# Altium footprint library relay.PCBLIB: 291 footprints (part 18 of 19)
Each footprint in its own frame and in the unit in brackets; x right, y up, seen from the top. Pads: shape width x height; smd on the part's side, far side on the other; paste and mask are expansions set on the pad; w line width, h text height; cw(c..) or ccw(c..) is an arc to the next point about the centre after c.
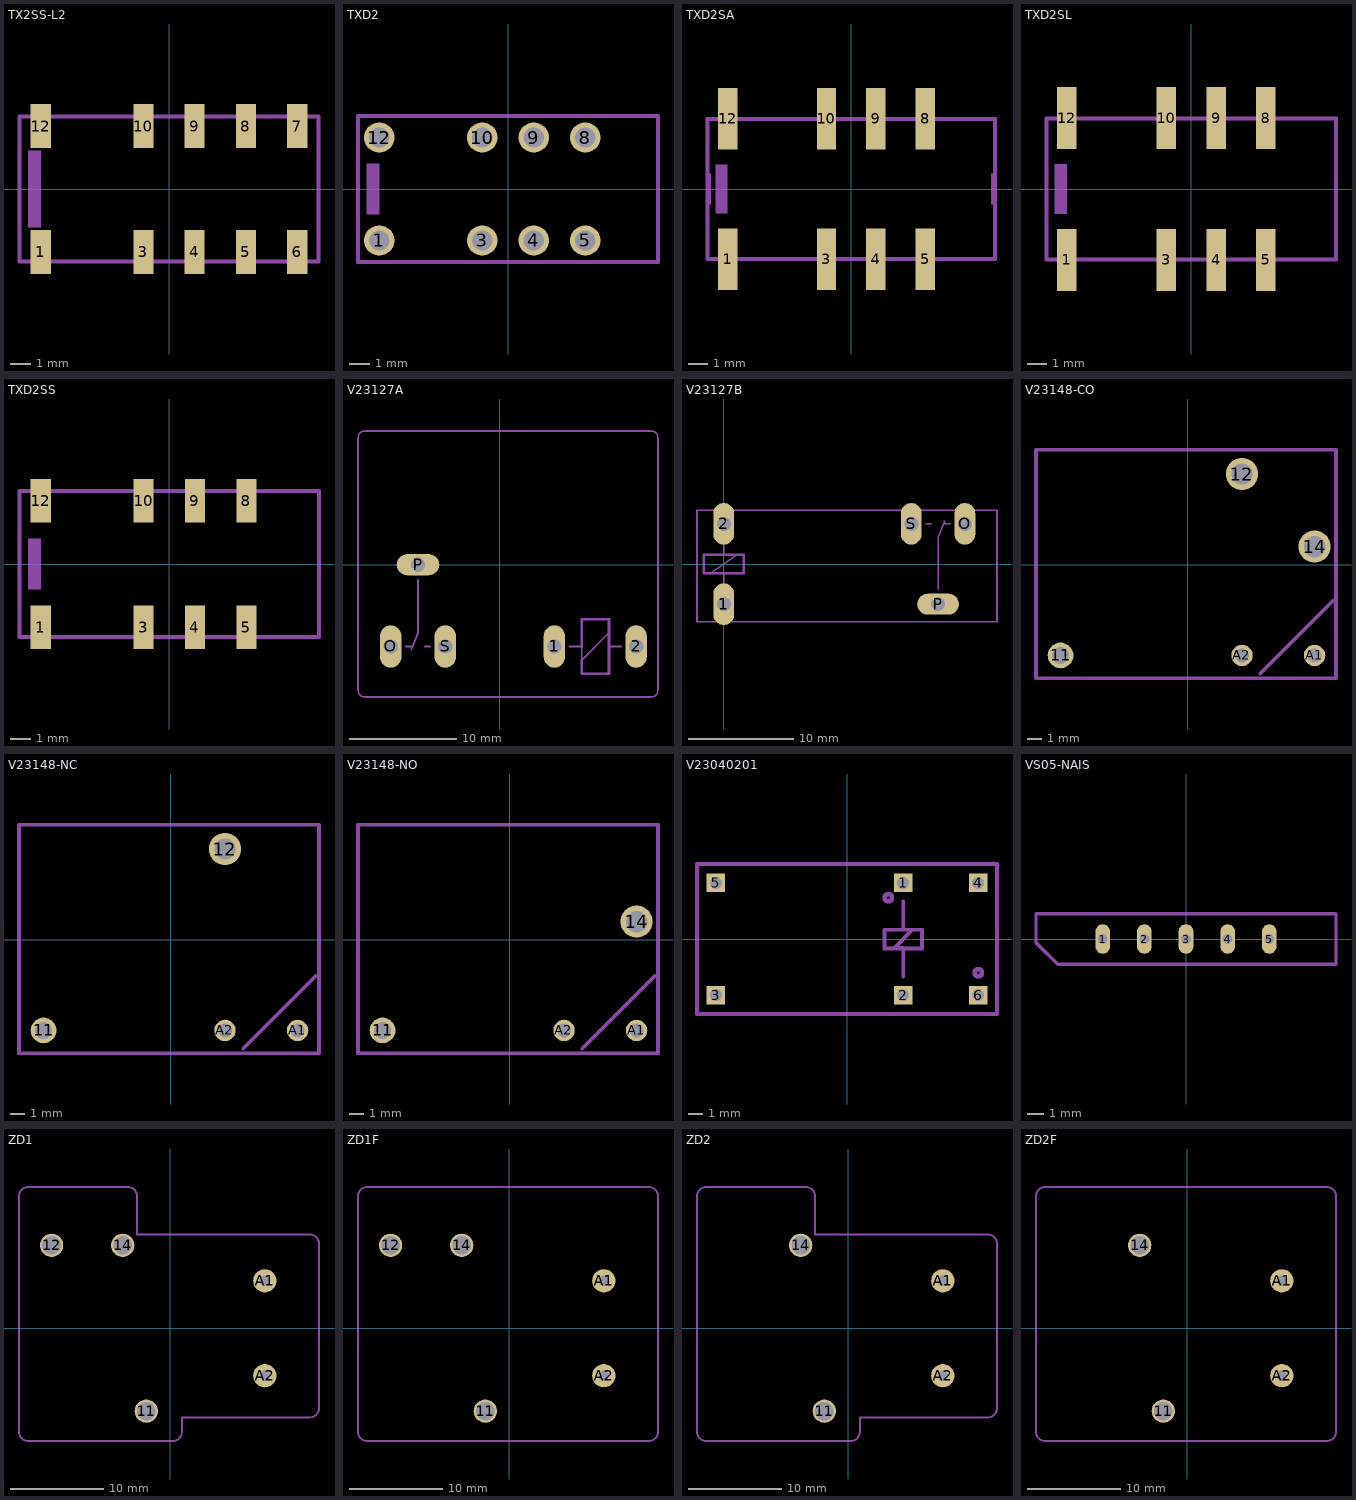
[diagram p17: the footprints below, top view; thin cyan lines are the x and y axes]

## TX2SS-L2 [mm]
pads (10):
  rect 1x2.16 smd: 1(-6.35,-3.12) 3(-1.27,-3.12) 4(1.27,-3.12) 5(3.81,-3.12) 6(6.35,-3.12) 7(6.35,3.12) 8(3.81,3.12) 9(1.27,3.12) 10(-1.27,3.12) 12(-6.35,3.12)
Mechanical 2:
  rectangle: -6.985,-1.905 -6.35,1.905
  lines w0.203: -7.4,-3.6 -7.4,3.6 ; -4.86,-3.6 -2.76,-3.6 ; -4.86,3.6 -2.76,3.6 ; 7.4,-3.6 7.4,3.6
Mechanical 18:
  lines w0.203: -7.4,-3.6 7.4,-3.6 ; -7.4,3.6 7.4,3.6

## TXD2 [mm]
pads (8):
  round 1.5 hole 1: 1(-6.35,-2.54) 3(-1.27,-2.54) 4(1.27,-2.54) 5(3.81,-2.54) 8(3.81,2.54) 9(1.27,2.54) 10(-1.27,2.54) 12(-6.35,2.54)
Mechanical 2:
  rectangle: -6.985,-1.27 -6.35,1.27
  lines w0.203: -7.4,-3.6 7.4,-3.6 7.4,3.6 -7.4,3.6 -7.4,-3.6

## TXD2SA [mm]
pads (8):
  rect 1x3.16 smd: 1(-6.35,-3.62) 3(-1.27,-3.62) 4(1.27,-3.62) 5(3.81,-3.62) 8(3.81,3.62) 9(1.27,3.62) 10(-1.27,3.62) 12(-6.35,3.62)
Mechanical 2:
  rectangle: -6.985,-1.27 -6.35,1.27
  lines w0.203: -7.4,-3.6 -7.4,3.6 ; -5.495,-3.6 -2.125,-3.6 ; -5.495,3.6 -2.125,3.6 ; 5.3,-3.6 7.4,-3.6 7.4,3.6 5.3,3.6
Mechanical 8:
  rectangle: -7.5,-0.8 -7.2,0.8
  region: 7.5,0.8 7.2,0.8 7.2,-0.8 7.5,-0.8
Mechanical 18:
  lines w0.203: -7.4,-3.6 7.4,-3.6 ; -7.4,3.6 7.4,3.6

## TXD2SL [mm]
pads (8):
  rect 1x3.16 smd: 1(-6.35,-3.62) 3(-1.27,-3.62) 4(1.27,-3.62) 5(3.81,-3.62) 8(3.81,3.62) 9(1.27,3.62) 10(-1.27,3.62) 12(-6.35,3.62)
Mechanical 2:
  rectangle: -6.985,-1.27 -6.35,1.27
  lines w0.203: -7.4,-3.6 -7.4,3.6 ; -5.495,-3.6 -2.125,-3.6 ; -5.495,3.6 -2.125,3.6 ; 5.3,-3.6 7.4,-3.6 7.4,3.6 5.3,3.6
Mechanical 18:
  lines w0.203: -7.4,-3.6 7.4,-3.6 ; -7.4,3.6 7.4,3.6

## TXD2SS [mm]
pads (8):
  rect 1x2.16 smd: 1(-6.35,-3.12) 3(-1.27,-3.12) 4(1.27,-3.12) 5(3.81,-3.12) 8(3.81,3.12) 9(1.27,3.12) 10(-1.27,3.12) 12(-6.35,3.12)
Mechanical 2:
  rectangle: -6.985,-1.27 -6.35,1.27
  lines w0.203: -7.4,-3.6 -7.4,3.6 ; -5.495,-3.6 -2.125,-3.6 ; -5.495,3.6 -2.125,3.6 ; 5.3,-3.6 7.4,-3.6 7.4,3.6 5.3,3.6
Mechanical 18:
  lines w0.203: -7.4,-3.6 7.4,-3.6 ; -7.4,3.6 7.4,3.6

## V23127A [mil]
pads (5):
  oval 78x156 hole 52: 1(200,-300) 2(500,-300) O(-400,-300) S(-200,-300)
  oval 156x78 hole 52: P(-300,0)
Mechanical 2:
  lines w6: -345,-300 -325,-300 ; -325,-312 -300,-250 -300,-55 ; -275,-300 -255,-300 ; 255,-300 300,-300 300,-350 400,-250 ; 400,-300 445,-300 ; -520,-460 ccw(c-495,-460) -495,-485 555,-485 ccw(c555,-460) 580,-460 580,465 ccw(c555,465) 555,490 -495,490 ccw(c-495,465) -520,465 -520,-460
  lines w10: 300,-350 300,-400 400,-400 400,-300 400,-250 400,-200 300,-200 300,-300

## V23127B [mil]
pads (5):
  oval 78x156 hole 52: 1(0,-150) 2(0,150) O(900,150) S(700,150)
  oval 156x78 hole 52: P(800,-150)
Mechanical 2:
  lines w6: -50,-35 50,35 ; -35,200 -100,200 -100,-215 1020,-215 1020,200 935,200 ; 0,-95 0,-35 ; 0,35 0,95 ; 35,200 665,200 ; 735,200 865,200 ; 755,150 775,150 ; 800,-95 800,100 825,160 ; 825,150 845,150
  lines w10: -75,-35 -75,35 0,35 50,35 75,35 75,-35 0,-35 -50,-35 -75,-35
Mechanical 18:
  lines w6: -35,200 35,200 ; 665,200 735,200 ; 865,200 935,200

## V23148-CO [mm]
pads (5):
  round 1.8 hole 1.2: 11(-8.89,-6.35)
  round 2.25 hole 1.5: 12(3.81,6.35) 14(8.89,1.27)
  round 1.5 hole 1: A1(8.89,-6.35) A2(3.81,-6.35)
Mechanical 2:
  lines w0.254: 5.08,-7.62 10.16,-2.54 ; -10.61,-7.95 -10.61,8.05 10.39,8.05 10.39,-7.95 -10.61,-7.95

## V23148-NC [mm]
pads (4):
  round 1.8 hole 1.2: 11(-8.89,-6.35)
  round 2.25 hole 1.5: 12(3.81,6.35)
  round 1.5 hole 1: A1(8.89,-6.35) A2(3.81,-6.35)
Mechanical 2:
  lines w0.254: 5.08,-7.62 10.16,-2.54 ; -10.61,-7.95 -10.61,8.05 10.39,8.05 10.39,-7.95 -10.61,-7.95

## V23148-NO [mm]
pads (4):
  round 1.8 hole 1.2: 11(-8.89,-6.35)
  round 2.25 hole 1.5: 14(8.89,1.27)
  round 1.5 hole 1: A1(8.89,-6.35) A2(3.81,-6.35)
Mechanical 2:
  lines w0.254: 5.08,-7.62 10.16,-2.54 ; -10.61,-7.95 -10.61,8.05 10.39,8.05 10.39,-7.95 -10.61,-7.95

## V23040201 [mil]
pads (6):
  rect 50x50 hole 32: 1(150,150) 2(150,-150) 3(-350,-150) 4(350,150) 5(-350,150) 6(350,-150)
Mechanical 2:
  circle w12: c110,110 r10
  circle w12: c350,-90 r10
  lines w10: 150,-100 150,-25 200,-25 200,25 175,25 ; 150,100 150,25 ; 150,25 100,25 100,-25 125,-25 175,25 ; 150,25 175,25 ; -400,-200 -400,200 400,200 400,-200 -400,-200
  lines w12: 125,-25 150,-25

## VS05-NAIS [mil]
pads (5):
  oval 35.43x70.86 hole 23.62: 1(-200,0) 2(-100,0) 3(0,0) 4(100,0) 5(200,0)
Mechanical 2:
  lines w8: -360.24,-8.46 -307.68,-61.02 360.24,-61.02 360.24,61.02 -360.24,61.02 -360.24,-8.46

## ZD1 [mm]
pads (5):
  round 2.5 hole 2: 11(-2.54,-8.88) 12(-12.7,8.88) 14(-5.08,8.88)
  round 2.5 hole 1.1: A1(10.16,5.08) A2(10.16,-5.08)
Mechanical 2:
  lines w0.203: -16.19,-11.1 -16.19,14.15 cw(c-15.19,14.15) -15.19,15.15 -4.54,15.15 cw(c-4.54,14.15) -3.54,14.15 -3.54,10.05 14.96,10.05 cw(c14.96,9.05) 15.96,9.05 15.96,-8.55 cw(c14.96,-8.55) 14.96,-9.55 1.26,-9.55 1.26,-11.1 cw(c0.26,-11.1) 0.26,-12.1 -15.19,-12.1 cw(c-15.19,-11.1) -16.19,-11.1

## ZD1F [mm]
pads (5):
  round 2.5 hole 2: 11(-2.54,-8.88) 12(-12.7,8.88) 14(-5.08,8.88)
  round 2.5 hole 1.1: A1(10.16,5.08) A2(10.16,-5.08)
Mechanical 2:
  lines w0.203: -16.19,-11.1 -16.19,14.15 cw(c-15.19,14.15) -15.19,15.15 14.96,15.15 cw(c14.96,14.15) 15.96,14.15 15.96,-11.1 cw(c14.96,-11.1) 14.96,-12.1 -15.19,-12.1 cw(c-15.19,-11.1) -16.19,-11.1

## ZD2 [mm]
pads (4):
  round 2.5 hole 2: 11(-2.54,-8.88) 14(-5.08,8.88)
  round 2.5 hole 1.1: A1(10.16,5.08) A2(10.16,-5.08)
Mechanical 2:
  lines w0.203: -16.19,-11.1 -16.19,14.15 cw(c-15.19,14.15) -15.19,15.15 -4.54,15.15 cw(c-4.54,14.15) -3.54,14.15 -3.54,10.05 14.96,10.05 cw(c14.96,9.05) 15.96,9.05 15.96,-8.55 cw(c14.96,-8.55) 14.96,-9.55 1.26,-9.55 1.26,-11.1 cw(c0.26,-11.1) 0.26,-12.1 -15.19,-12.1 cw(c-15.19,-11.1) -16.19,-11.1

## ZD2F [mm]
pads (4):
  round 2.5 hole 2: 11(-2.54,-8.88) 14(-5.08,8.88)
  round 2.5 hole 1.1: A1(10.16,5.08) A2(10.16,-5.08)
Mechanical 2:
  lines w0.203: -16.19,-11.1 -16.19,14.15 cw(c-15.19,14.15) -15.19,15.15 14.96,15.15 cw(c14.96,14.15) 15.96,14.15 15.96,-11.1 cw(c14.96,-11.1) 14.96,-12.1 -15.19,-12.1 cw(c-15.19,-11.1) -16.19,-11.1